# Altium footprint library nidec_switch_chs-04ta.PcbLib: 3 footprints
Each footprint in its own frame and in the unit in brackets; x right, y up, seen from the top. Pads: shape width x height; smd on the part's side, far side on the other; paste and mask are expansions set on the pad; w line width, h text height; cw(c..) or ccw(c..) is an arc to the next point about the centre after c.
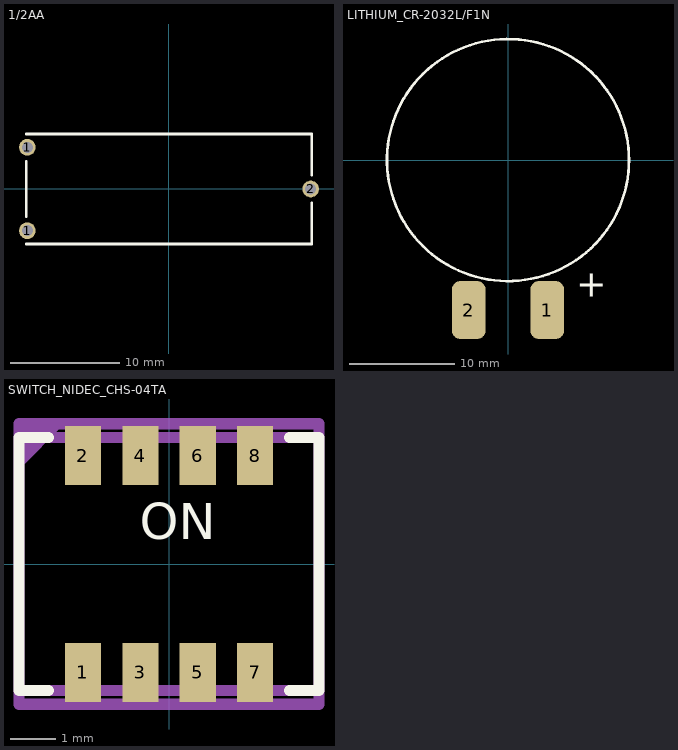
[diagram p0: the footprints below, top view; thin cyan lines are the x and y axes]

## 1/2AA [mm] "1/2AA TH BATTERY"
pads (3):
  round 1.524 hole 1: 1(-12.9,-3.8) 1(-12.9,3.8) 2(12.9,0)
Top Overlay:
  lines w0.254: -13,-5 13,-5 13,-1.25 ; -13,-2.5 -13,2.5 ; -13,5 13,5 13,1.25
3D body: height 8, standoff 0, extent -12.75,-4.75 12.75,4.75

## LITHIUM_CR-2032L/F1N [mm] "BATTERY LITHIUM COIN 3V W/TABS"
pads (2):
  rrect50% 3.2x5.5 smd: 1(3.725,-14.25) 2(-3.725,-14.25)
Top Overlay:
  circle w0.254: c0,0 r11.5
  text "+" at 6.5,-13 h2.54
3D body: height 4, standoff 0, extent -10.048,-9.98 9.873,9.98

## SWITCH_NIDEC_CHS-04TA [mm]
height 2.5
pads (8):
  rect 0.8x1.3 smd: 1(-1.905,-2.4) 2(-1.905,2.4) 3(-0.635,-2.4) 4(-0.635,2.4) 5(0.635,-2.4) 6(0.635,2.4) 7(1.905,-2.4) 8(1.905,2.4)
Top Overlay:
  lines w0.254: -2.67,-2.8 -3.32,-2.8 -3.32,2.8 -2.67,2.8 ; 2.67,-2.8 3.32,-2.8 3.32,2.8 2.67,2.8
  text "ON" at -0.65,0.55 h0.8
Top 3D Body:
  lines w0.254: -3.32,-2.8 3.32,-2.8 3.32,2.8 -3.32,2.8 -3.32,-2.8
Top Courtyard:
  region: -3.32,3.1 -2.32,3.1 -3.32,2.1
  lines w0.254: -3.32,-3.1 -3.32,3.1 3.32,3.1 3.32,-3.1 -3.32,-3.1
Top Designator (Mech17):
  text ".Designator" at -2.2,-0.367 h1
3D body "CHS-04TA.step": height 2.5, standoff 0, extent -3.3,-2.8 3.3,2.8